# Altium footprint library SOP65P784X198-28N.PcbLib: 1 footprints
Each footprint in its own frame and in the unit in brackets; x right, y up, seen from the top. Pads: shape width x height; smd on the part's side, far side on the other; paste and mask are expansions set on the pad; w line width, h text height; cw(c..) or ccw(c..) is an arc to the next point about the centre after c.
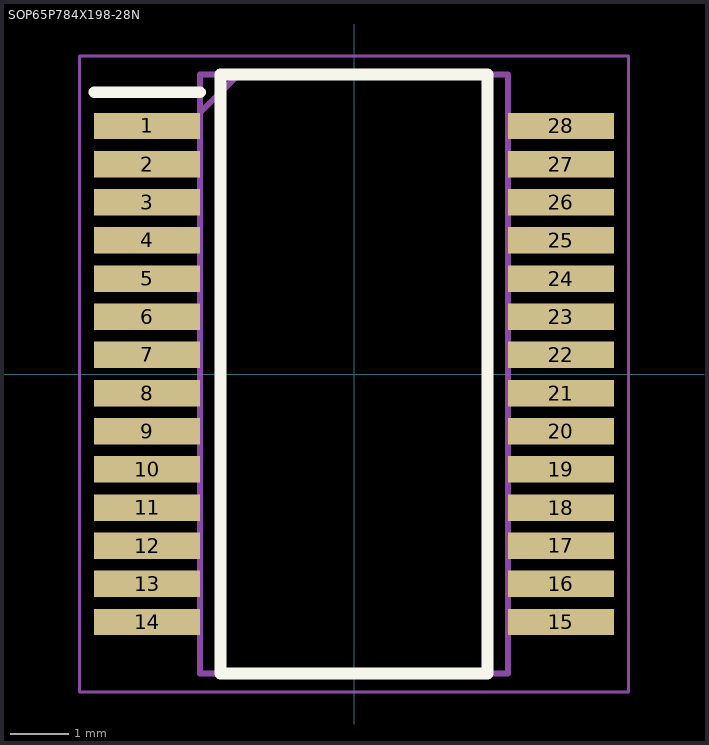
[diagram p0: the footprint, top view; thin cyan lines are the x and y axes]

## SOP65P784X198-28N [mm]
pads (28):
  rect 1.8x0.45 smd: 1(-3.525,4.225) 2(-3.525,3.575) 3(-3.525,2.925) 4(-3.525,2.275) 5(-3.525,1.625) 6(-3.525,0.975) 7(-3.525,0.325) 8(-3.525,-0.325) 9(-3.525,-0.975) 10(-3.525,-1.625) 11(-3.525,-2.275) 12(-3.525,-2.925) 13(-3.525,-3.575) 14(-3.525,-4.225) 15(3.525,-4.225) 16(3.525,-3.575) 17(3.525,-2.925) 18(3.525,-2.275) 19(3.525,-1.625) 20(3.525,-0.975) 21(3.525,-0.325) 22(3.525,0.325) 23(3.525,0.975) 24(3.525,1.625) 25(3.525,2.275) 26(3.525,2.925) 27(3.525,3.575) 28(3.525,4.225)
Top Overlay:
  lines w0.2: -4.425,4.8 -2.625,4.8 ; -2.275,-5.1 2.275,-5.1 2.275,5.1 -2.275,5.1 -2.275,-5.1
Mechanical 15:
  lines w0.1: -2.622,4.45 -1.972,5.1 ; -2.622,-5.1 2.622,-5.1 2.622,5.1 -2.622,5.1 -2.622,-5.1
Mechanical 20:
  lines w0.05: -4.675,-5.42 4.675,-5.42 4.675,5.42 -4.675,5.42 -4.675,-5.42